# EAGLE library part RTC_ISL12022M (library microbuilder)
Temp. Compensated +/-5ppm RTC
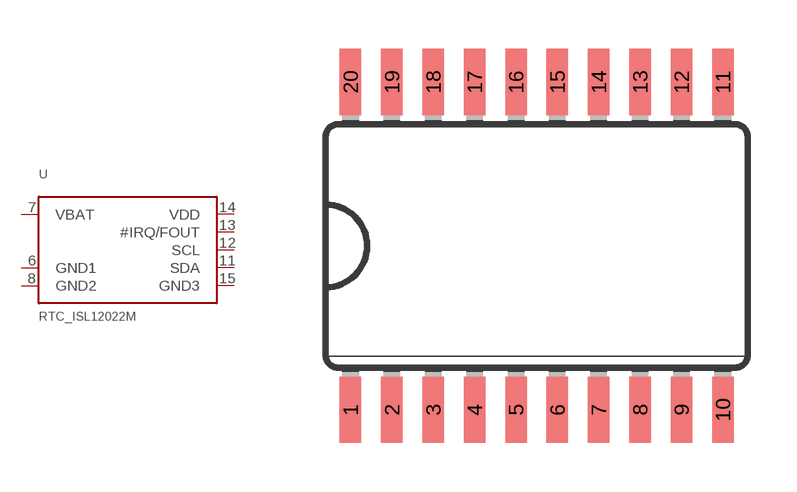
[diagram p103: symbol with the pads of SOIC20WIDE; footprint SOIC20WIDE]

Designator prefix U

## RTC_ISL12022M  [SOIC20WIDE]
6  GND1  pwr
7  VBAT  pwr
8  GND2  pwr
11  SDA
12  SCL
13  #IRQ/FOUT
14  VDD  pwr
15  GND3  pwr

## Footprint SOIC20WIDE (pad centres in mm)
smd 0.66 x 2.032: 1 -5.715,-5.029; 2 -4.445,-5.029; 3 -3.175,-5.029; 4 -1.905,-5.029; 5 -0.635,-5.029; 6 0.635,-5.029; 7 1.905,-5.029; 8 3.175,-5.029; 9 4.445,-5.029; 10 5.715,-5.029; 11 5.715,5.029; 12 4.445,5.029; 13 3.175,5.029; 14 1.905,5.029; 15 0.635,5.029; 16 -0.635,5.029; 17 -1.905,5.029; 18 -3.175,5.029; 19 -4.445,5.029; 20 -5.715,5.029